# Altium footprint library qfn.PcbLib: 16 footprints
Each footprint in its own frame and in the unit in brackets; x right, y up, seen from the top. Pads: shape width x height; smd on the part's side, far side on the other; paste and mask are expansions set on the pad; w line width, h text height; cw(c..) or ccw(c..) is an arc to the next point about the centre after c.
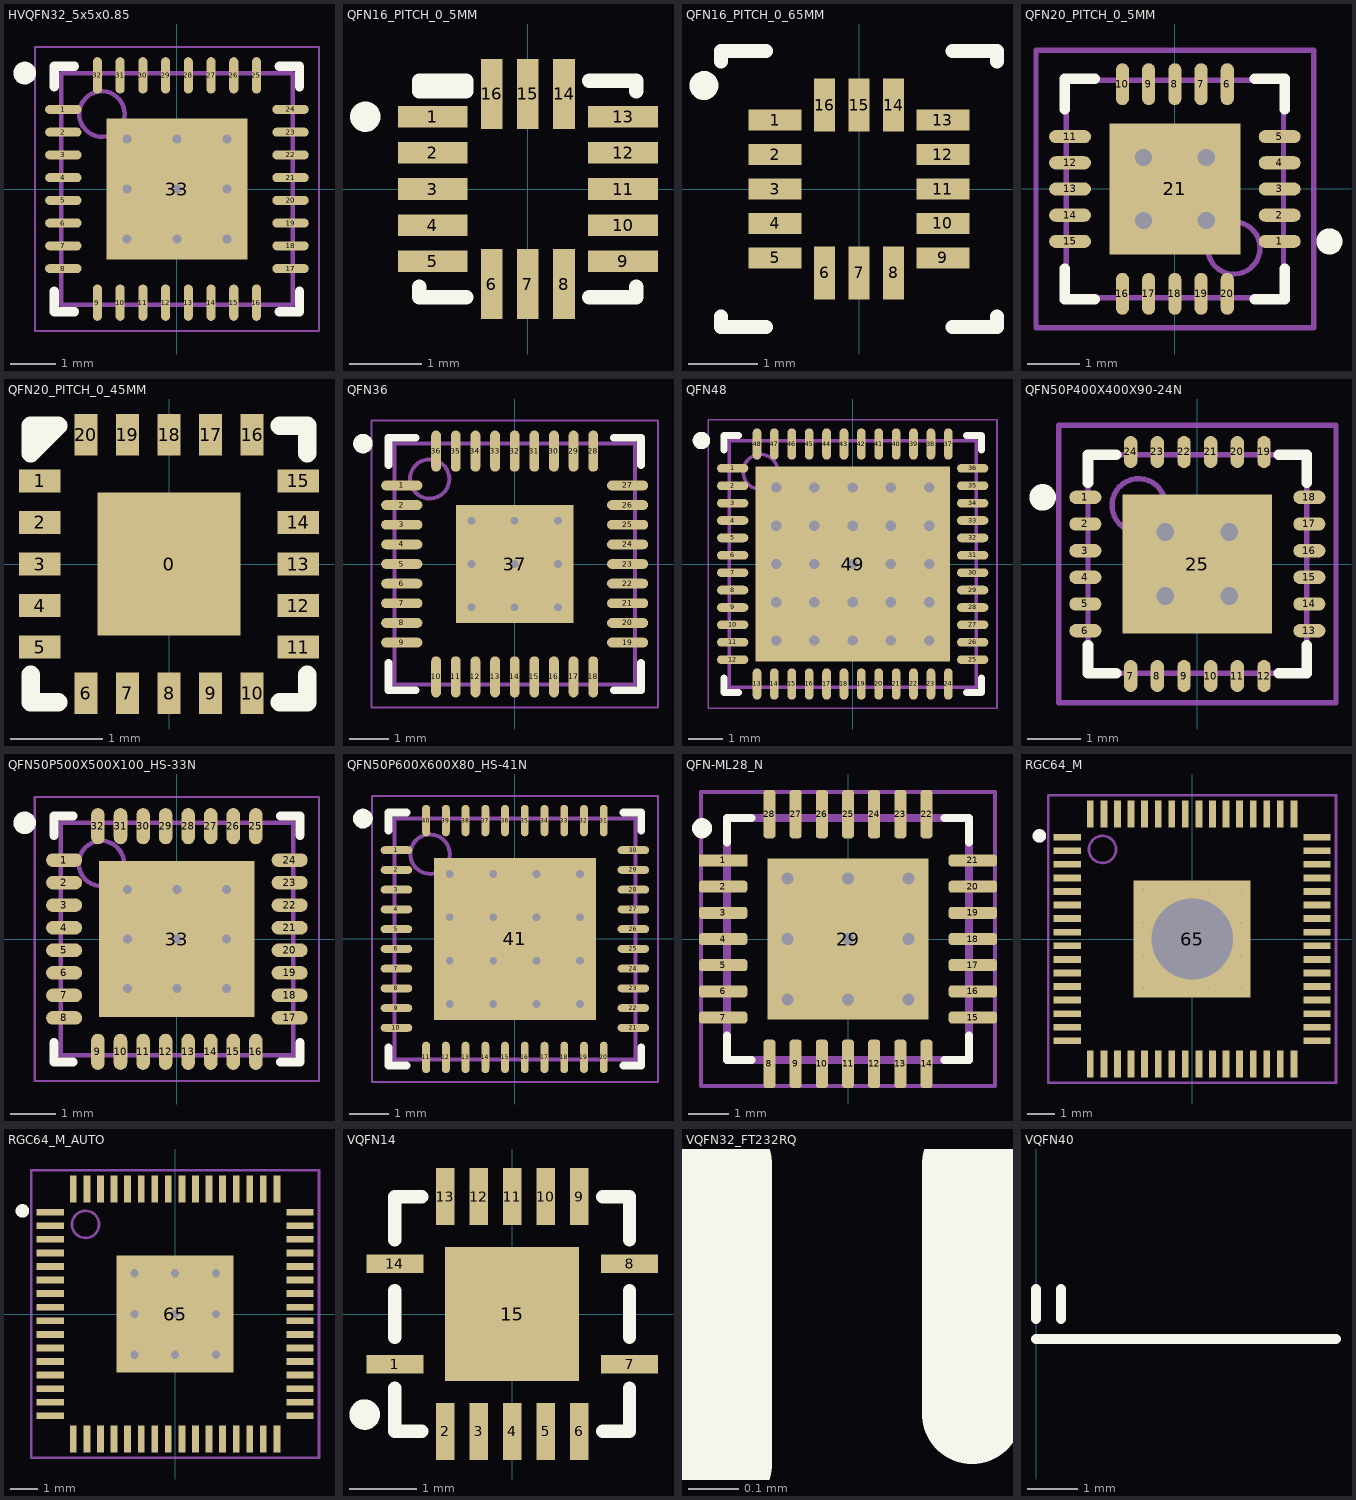
[diagram p0: the footprints below, top view; thin cyan lines are the x and y axes]

## HVQFN32_5x5x0.85 [mm] "QFN, 32-Leads, Body 5,00x5,00mm, Pitch 0,50mm, Thermal Pad 3,10x3,10mm, IPC Medium Density"
height 1
pads (33):
  oval 0.8x0.2 smd: 1(-2.5,1.75) 2(-2.5,1.25) 3(-2.5,0.75) 4(-2.5,0.25) 5(-2.5,-0.25) 6(-2.5,-0.75) 7(-2.5,-1.25) 8(-2.5,-1.75) 17(2.5,-1.75) 18(2.5,-1.25) 19(2.5,-0.75) 20(2.5,-0.25) 21(2.5,0.25) 22(2.5,0.75) 23(2.5,1.25) 24(2.5,1.75)
  oval 0.2x0.8 smd: 9(-1.75,-2.5) 10(-1.25,-2.5) 11(-0.75,-2.5) 12(-0.25,-2.5) 13(0.25,-2.5) 14(0.75,-2.5) 15(1.25,-2.5) 16(1.75,-2.5) 25(1.75,2.5) 26(1.25,2.5) 27(0.75,2.5) 28(0.25,2.5) 29(-0.25,2.5) 30(-0.75,2.5) 31(-1.25,2.5) 32(-1.75,2.5)
  rect 3.1x3.1 smd: 33(0,0)
via 1.1,-1.1 diameter 0.5 hole 0.2
via 0,-1.1 diameter 0.5 hole 0.2
via -1.1,-1.1 diameter 0.5 hole 0.2
via 1.1,0 diameter 0.5 hole 0.2
via 0,0 diameter 0.5 hole 0.2
via -1.1,0 diameter 0.5 hole 0.2
via 1.1,1.1 diameter 0.5 hole 0.2
via 0,1.1 diameter 0.5 hole 0.2
via -1.1,1.1 diameter 0.5 hole 0.2
Top Overlay:
  circle w0.25: c-3.35,2.55 r0.125
  lines w0.2: -2.7,-2.25 -2.7,-2.7 -2.25,-2.7 ; -2.7,2.25 -2.7,2.7 -2.25,2.7 ; 2.25,-2.7 2.7,-2.7 2.7,-2.25 ; 2.25,2.7 2.7,2.7 2.7,2.25
Mechanical 13:
  circle w0.1: c-1.65,1.65 r0.5
  lines w0.1: -2.55,-2.55 2.55,-2.55 2.55,2.55 -2.55,2.55 -2.55,-2.55
Mechanical 15:
  lines w0.05: -3.125,-3.125 3.125,-3.125 3.125,3.125 -3.125,3.125 -3.125,-3.125
  lines w0.1: -0.5,0 0.5,0 ; 0,-0.5 0,0.5
3D body: height 1, standoff 0, extent -2.55,-2.55 2.55,2.55

## QFN16_PITCH_0_5MM [mm] "QFN; 16 Leads; Body 3 x 3 x 1mm; Pitch 0.5 mm;"
height 0.9
pads (16):
  rect 0.967x0.3 smd: 1(-1.316,1) 2(-1.316,0.5) 3(-1.316,0) 4(-1.316,-0.5) 5(-1.316,-1) 9(1.316,-1) 10(1.316,-0.5) 11(1.316,0) 12(1.316,0.5) 13(1.316,1)
  rect 0.3x0.967 smd: 6(-0.5,-1.316) 7(0,-1.316) 8(0.5,-1.316) 14(0.5,1.316) 15(0,1.316) 16(-0.5,1.316)
Top Overlay:
  circle w0.22: c-2.25,1 r0.1
  lines w0.2: -1.5,-1.35 -1.5,-1.5 -0.85,-1.5 ; 0.85,-1.5 1.5,-1.5 1.5,-1.35 ; 0.85,1.5 1.5,1.5 1.5,1.35 ; -1.5,1.35 -1.5,1.5 -0.85,1.5 -0.85,1.35 -1.5,1.35
3D body: height 1, standoff 0, extent -1.5,-1.5 1.5,1.5

## QFN16_PITCH_0_65MM [mm] "QFN; 16 Leads; Body 4 x 4 x 1mm; Pitch 0.65 mm;"
height 0.9
pads (16):
  rect 0.767x0.3 smd: 1(-1.216,1) 2(-1.216,0.5) 3(-1.216,0) 4(-1.216,-0.5) 5(-1.216,-1) 9(1.216,-1) 10(1.216,-0.5) 11(1.216,0) 12(1.216,0.5) 13(1.216,1)
  rect 0.3x0.767 smd: 6(-0.5,-1.216) 7(0,-1.216) 8(0.5,-1.216) 14(0.5,1.216) 15(0,1.216) 16(-0.5,1.216)
Top Overlay:
  circle w0.22: c-2.25,1.5 r0.1
  lines w0.2: -2,-1.85 -2,-2 -1.35,-2 ; -2,1.85 -2,2 -1.35,2 ; 1.35,-2 2,-2 2,-1.85 ; 1.35,2 2,2 2,1.85
3D body "User Library-qfn16-4x4.step": height 0.92, standoff 0, extent -2,-2 2,2

## QFN20_PITCH_0_5MM [mm] "QFN, 20-Leads, Body 4,2x4,2mm (max), Pitch 0,50mm, IPC Medium Density"
height 1
pads (21):
  oval 0.8x0.25 smd: 1(2,-1) 2(2,-0.5) 3(2,0) 4(2,0.5) 5(2,1) 11(-2,1) 12(-2,0.5) 13(-2,0) 14(-2,-0.5) 15(-2,-1)
  oval 0.25x0.8 smd: 6(1,2) 7(0.5,2) 8(0,2) 9(-0.5,2) 10(-1,2) 16(-1,-2) 17(-0.5,-2) 18(0,-2) 19(0.5,-2) 20(1,-2)
  rect 2.5x2.5 smd: 21(0,0)
via -0.6,0.6 diameter 0.66 hole 0.33
via 0.6,0.6 diameter 0.66 hole 0.33
via -0.6,-0.6 diameter 0.66 hole 0.33
via 0.6,-0.6 diameter 0.66 hole 0.33
Top Overlay:
  circle w0.25: c2.95,-1 r0.125
  lines w0.2: -2.1,-1.525 -2.1,-2.1 -1.525,-2.1 ; -2.1,1.525 -2.1,2.1 -1.525,2.1 ; 1.525,-2.1 2.1,-2.1 2.1,-1.525 ; 1.525,2.1 2.1,2.1 2.1,1.525
Mechanical 13:
  circle w0.1: c1.125,-1.125 r0.5
  lines w0.1: -2.075,-2.075 2.075,-2.075 2.075,2.075 -2.075,2.075 -2.075,-2.075
Mechanical 15:
  lines w0.1: -0.5,0 0.5,0 ; 0,-0.5 0,0.5 ; -2.65,-2.65 2.65,-2.65 2.65,2.65 -2.65,2.65 -2.65,-2.65
3D body: height 1, standoff 0.05, extent -2.075,-2.075 2.075,2.075

## QFN20_PITCH_0_45MM [mm] "QFN; 20 Leads; Body 3 x 3 mm; Pitch 0.45 mm"
height 0.85
pads (21):
  rect 1.55x1.55 smd: 0(0,0)
  rect 0.45x0.25 smd mask+0.05: 1(-1.4,0.9) 2(-1.4,0.45) 3(-1.4,0) 4(-1.4,-0.45) 5(-1.4,-0.9) 11(1.4,-0.9) 12(1.4,-0.45) 13(1.4,0) 14(1.4,0.45) 15(1.4,0.9)
  rect 0.25x0.45 smd mask+0.05: 6(-0.9,-1.4) 7(-0.45,-1.4) 8(0,-1.4) 9(0.45,-1.4) 10(0.9,-1.4) 16(0.9,1.4) 17(0.45,1.4) 18(0,1.4) 19(-0.45,1.4) 20(-0.9,1.4)
Top Overlay:
  lines w0.2: -1.5,-1.2 -1.5,-1.5 -1.2,-1.5 ; 1.2,-1.5 1.5,-1.5 1.5,-1.2 ; 1.2,1.5 1.5,1.5 1.5,1.2 ; -1.5,1.2 -1.2,1.5 -1.5,1.5 -1.5,1.2
3D body "SW3dPS-QFN-20.STEP": height 0.62, standoff -0.08, extent -1.48,-1.52 1.52,1.48

## QFN36 [mm] "QFN, 36-Leads, Body 6.13x6.13mm, Pitch 0.5mm, Thermal Pad 3x3mm, IPC Medium Density"
height 1
pads (37):
  oval 1.05x0.25 smd: 1(-2.875,2) 2(-2.875,1.5) 3(-2.875,1) 4(-2.875,0.5) 5(-2.875,0) 6(-2.875,-0.5) 7(-2.875,-1) 8(-2.875,-1.5) 9(-2.875,-2) 19(2.875,-2) 20(2.875,-1.5) 21(2.875,-1) 22(2.875,-0.5) 23(2.875,0) 24(2.875,0.5) 25(2.875,1) 26(2.875,1.5) 27(2.875,2)
  oval 0.25x1.05 smd: 10(-2,-2.875) 11(-1.5,-2.875) 12(-1,-2.875) 13(-0.5,-2.875) 14(0,-2.875) 15(0.5,-2.875) 16(1,-2.875) 17(1.5,-2.875) 18(2,-2.875) 28(2,2.875) 29(1.5,2.875) 30(1,2.875) 31(0.5,2.875) 32(0,2.875) 33(-0.5,2.875) 34(-1,2.875) 35(-1.5,2.875) 36(-2,2.875)
  rect 3x3 smd: 37(0,0)
via 1.1,-1.1 diameter 0.5 hole 0.2
via 0,-1.1 diameter 0.5 hole 0.2
via -1.1,-1.1 diameter 0.5 hole 0.2
via 1.1,0 diameter 0.5 hole 0.2
via 0,0 diameter 0.5 hole 0.2
via -1.1,0 diameter 0.5 hole 0.2
via 1.1,1.1 diameter 0.5 hole 0.2
via 0,1.1 diameter 0.5 hole 0.2
via -1.1,1.1 diameter 0.5 hole 0.2
Top Overlay:
  circle w0.25: c-3.865,3.065 r0.125
  lines w0.2: -3.215,-2.525 -3.215,-3.215 -2.525,-3.215 ; -3.215,2.525 -3.215,3.215 -2.525,3.215 ; 2.525,-3.215 3.215,-3.215 3.215,-2.525 ; 2.525,3.215 3.215,3.215 3.215,2.525
Mechanical 13:
  circle w0.1: c-2.165,2.165 r0.5
  lines w0.1: -3.065,-3.065 3.065,-3.065 3.065,3.065 -3.065,3.065 -3.065,-3.065
Mechanical 15:
  lines w0.05: -3.65,-3.65 3.65,-3.65 3.65,3.65 -3.65,3.65 -3.65,-3.65
  lines w0.1: -0.5,0 0.5,0 ; 0,-0.5 0,0.5
3D body "User Library-QFN36 (6x6).step": height 0.9, standoff 0.01, extent -3.102,-3.103 3.103,3.102

## QFN48 [mm] "QFN, 48-Leads, Body 7.1x7.1mm, Pitch 0.5mm, Thermal Pad 5.6x5.6mm, IPC Medium Density"
height 0.6
pads (49):
  oval 0.9x0.25 smd: 1(-3.45,2.75) 2(-3.45,2.25) 3(-3.45,1.75) 4(-3.45,1.25) 5(-3.45,0.75) 6(-3.45,0.25) 7(-3.45,-0.25) 8(-3.45,-0.75) 9(-3.45,-1.25) 10(-3.45,-1.75) 11(-3.45,-2.25) 12(-3.45,-2.75) 25(3.45,-2.75) 26(3.45,-2.25) 27(3.45,-1.75) 28(3.45,-1.25) 29(3.45,-0.75) 30(3.45,-0.25) 31(3.45,0.25) 32(3.45,0.75) 33(3.45,1.25) 34(3.45,1.75) 35(3.45,2.25) 36(3.45,2.75)
  oval 0.25x0.9 smd: 13(-2.75,-3.45) 14(-2.25,-3.45) 15(-1.75,-3.45) 16(-1.25,-3.45) 17(-0.75,-3.45) 18(-0.25,-3.45) 19(0.25,-3.45) 20(0.75,-3.45) 21(1.25,-3.45) 22(1.75,-3.45) 23(2.25,-3.45) 24(2.75,-3.45) 37(2.75,3.45) 38(2.25,3.45) 39(1.75,3.45) 40(1.25,3.45) 41(0.75,3.45) 42(0.25,3.45) 43(-0.25,3.45) 44(-0.75,3.45) 45(-1.25,3.45) 46(-1.75,3.45) 47(-2.25,3.45) 48(-2.75,3.45)
  rect 5.6x5.6 smd: 49(0,0)
via -2.2,2.2 diameter 0.5 hole 0.3
via -1.1,2.2 diameter 0.5 hole 0.3
via 0,2.2 diameter 0.5 hole 0.3
via 1.1,2.2 diameter 0.5 hole 0.3
via 2.2,2.2 diameter 0.5 hole 0.3
via -2.2,1.1 diameter 0.5 hole 0.3
via -1.1,1.1 diameter 0.5 hole 0.3
via 0,1.1 diameter 0.5 hole 0.3
via 1.1,1.1 diameter 0.5 hole 0.3
via 2.2,1.1 diameter 0.5 hole 0.3
via -2.2,0 diameter 0.5 hole 0.3
via -1.1,0 diameter 0.5 hole 0.3
via 0,0 diameter 0.5 hole 0.3
via 1.1,0 diameter 0.5 hole 0.3
via 2.2,0 diameter 0.5 hole 0.3
via -2.2,-1.1 diameter 0.5 hole 0.3
via -1.1,-1.1 diameter 0.5 hole 0.3
via 0,-1.1 diameter 0.5 hole 0.3
via 1.1,-1.1 diameter 0.5 hole 0.3
via 2.2,-1.1 diameter 0.5 hole 0.3
via -2.2,-2.2 diameter 0.5 hole 0.3
via -1.1,-2.2 diameter 0.5 hole 0.3
via 0,-2.2 diameter 0.5 hole 0.3
via 1.1,-2.2 diameter 0.5 hole 0.3
via 2.2,-2.2 diameter 0.5 hole 0.3
Top Overlay:
  circle w0.25: c-4.35,3.55 r0.125
  lines w0.2: -3.7,-3.275 -3.7,-3.7 -3.275,-3.7 ; -3.7,3.275 -3.7,3.7 -3.275,3.7 ; 3.275,-3.7 3.7,-3.7 3.7,-3.275 ; 3.275,3.7 3.7,3.7 3.7,3.275
Mechanical 13:
  circle w0.1: c-2.65,2.65 r0.5
  lines w0.1: -3.55,-3.55 -3.55,3.55 3.55,3.55 3.55,-3.55 -3.55,-3.55
Mechanical 15:
  lines w0.05: -4.15,-4.15 -4.15,4.15 4.15,4.15 4.15,-4.15 -4.15,-4.15
  lines w0.1: -0.5,0 0.5,0 ; 0,-0.5 0,0.5
3D body "User Library-QFN48_7x7.step": height 0.78, standoff -0.02, extent -3.51,-3.51 3.51,3.51

## QFN50P400X400X90-24N [mm] "QFN, 24-Leads, Body 4,1x4,1mm (max), Pitch 0,50mm, IPC Medium Density"
height 0.9
pads (25):
  oval 0.6x0.25 smd: 1(-2.1,1.25) 2(-2.1,0.75) 3(-2.1,0.25) 4(-2.1,-0.25) 5(-2.1,-0.75) 6(-2.1,-1.25) 13(2.1,-1.25) 14(2.1,-0.75) 15(2.1,-0.25) 16(2.1,0.25) 17(2.1,0.75) 18(2.1,1.25)
  oval 0.25x0.6 smd: 7(-1.25,-2.1) 8(-0.75,-2.1) 9(-0.25,-2.1) 10(0.25,-2.1) 11(0.75,-2.1) 12(1.25,-2.1) 19(1.25,2.1) 20(0.75,2.1) 21(0.25,2.1) 22(-0.25,2.1) 23(-0.75,2.1) 24(-1.25,2.1)
  rect 2.8x2.6 smd: 25(0,0)
via -0.6,0.6 diameter 0.66 hole 0.33
via 0.6,0.6 diameter 0.66 hole 0.33
via -0.6,-0.6 diameter 0.66 hole 0.33
via 0.6,-0.6 diameter 0.66 hole 0.33
Top Overlay:
  circle w0.25: c-2.9,1.25 r0.125
  lines w0.2: -2.05,-1.525 -2.05,-2.05 -1.525,-2.05 ; -2.05,1.525 -2.05,2.05 -1.525,2.05 ; 1.525,-2.05 2.05,-2.05 2.05,-1.525 ; 1.525,2.05 2.05,2.05 2.05,1.525
Mechanical 13:
  circle w0.1: c-1.1,1.1 r0.5
  lines w0.1: -2.05,-2.05 -2.05,2.05 2.05,2.05 2.05,-2.05 -2.05,-2.05
Mechanical 15:
  lines w0.1: -0.5,0 0.5,0 ; 0,-0.5 0,0.5 ; -2.6,-2.6 -2.6,2.6 2.6,2.6 2.6,-2.6 -2.6,-2.6
3D body: height 0.9, standoff 0, extent -2.05,-2.05 2.05,2.05

## QFN50P500X500X100_HS-33N [mm] "QFN, 32-Leads, Body 5.00x5.00mm, Pitch 0.50mm, Thermal Pad 3.45x3.45mm, IPC Medium Density"
height 1
pads (33):
  oval 0.8x0.3 smd: 1(-2.5,1.75) 2(-2.5,1.25) 3(-2.5,0.75) 4(-2.5,0.25) 5(-2.5,-0.25) 6(-2.5,-0.75) 7(-2.5,-1.25) 8(-2.5,-1.75) 17(2.5,-1.75) 18(2.5,-1.25) 19(2.5,-0.75) 20(2.5,-0.25) 21(2.5,0.25) 22(2.5,0.75) 23(2.5,1.25) 24(2.5,1.75)
  oval 0.3x0.8 smd: 9(-1.75,-2.5) 10(-1.25,-2.5) 11(-0.75,-2.5) 12(-0.25,-2.5) 13(0.25,-2.5) 14(0.75,-2.5) 15(1.25,-2.5) 16(1.75,-2.5) 25(1.75,2.5) 26(1.25,2.5) 27(0.75,2.5) 28(0.25,2.5) 29(-0.25,2.5) 30(-0.75,2.5) 31(-1.25,2.5) 32(-1.75,2.5)
  rect 3.45x3.45 smd: 33(0,0)
via 1.1,-1.1 diameter 0.5 hole 0.2
via 0,-1.1 diameter 0.5 hole 0.2
via -1.1,-1.1 diameter 0.5 hole 0.2
via 1.1,0 diameter 0.5 hole 0.2
via 0,0 diameter 0.5 hole 0.2
via -1.1,0 diameter 0.5 hole 0.2
via 1.1,1.1 diameter 0.5 hole 0.2
via 0,1.1 diameter 0.5 hole 0.2
via -1.1,1.1 diameter 0.5 hole 0.2
Top Overlay:
  circle w0.25: c-3.375,2.575 r0.125
  lines w0.2: -2.725,-2.3 -2.725,-2.725 -2.3,-2.725 ; -2.725,2.3 -2.725,2.725 -2.3,2.725 ; 2.3,-2.725 2.725,-2.725 2.725,-2.3 ; 2.3,2.725 2.725,2.725 2.725,2.3
Mechanical 13:
  circle w0.1: c-1.675,1.675 r0.5
  lines w0.1: -2.575,-2.575 2.575,-2.575 2.575,2.575 -2.575,2.575 -2.575,-2.575
Mechanical 15:
  lines w0.05: -3.15,-3.15 3.15,-3.15 3.15,3.15 -3.15,3.15 -3.15,-3.15
  lines w0.1: -0.5,0 0.5,0 ; 0,-0.5 0,0.5
3D body: height 1, standoff 0.05, extent -2.575,-2.575 2.575,2.575

## QFN50P600X600X80_HS-41N [mm] "QFN, 40-Leads, Body 6,00x6,00mm, Pitch 0,50mm, Thermal Pad 4,10x4,10mm, IPC Medium Density"
height 0.8
pads (41):
  oval 0.8x0.2 smd: 1(-3,2.25) 2(-3,1.75) 3(-3,1.25) 4(-3,0.75) 5(-3,0.25) 6(-3,-0.25) 7(-3,-0.75) 8(-3,-1.25) 9(-3,-1.75) 10(-3,-2.25) 21(3,-2.25) 22(3,-1.75) 23(3,-1.25) 24(3,-0.75) 25(3,-0.25) 26(3,0.25) 27(3,0.75) 28(3,1.25) 29(3,1.75) 30(3,2.25)
  oval 0.2x0.8 smd: 11(-2.25,-3) 12(-1.75,-3) 13(-1.25,-3) 14(-0.75,-3) 15(-0.25,-3) 16(0.25,-3) 17(0.75,-3) 18(1.25,-3) 19(1.75,-3) 20(2.25,-3) 31(2.25,3) 32(1.75,3) 33(1.25,3) 34(0.75,3) 35(0.25,3) 36(-0.25,3) 37(-0.75,3) 38(-1.25,3) 39(-1.75,3) 40(-2.25,3)
  rect 4.1x4.1 smd: 41(0,0)
via -1.65,1.65 diameter 0.5 hole 0.2
via -0.55,1.65 diameter 0.5 hole 0.2
via 0.55,1.65 diameter 0.5 hole 0.2
via 1.65,1.65 diameter 0.5 hole 0.2
via -1.65,0.55 diameter 0.5 hole 0.2
via -0.55,0.55 diameter 0.5 hole 0.2
via 0.55,0.55 diameter 0.5 hole 0.2
via 1.65,0.55 diameter 0.5 hole 0.2
via -1.65,-0.55 diameter 0.5 hole 0.2
via -0.55,-0.55 diameter 0.5 hole 0.2
via 0.55,-0.55 diameter 0.5 hole 0.2
via 1.65,-0.55 diameter 0.5 hole 0.2
via -1.65,-1.65 diameter 0.5 hole 0.2
via -0.55,-1.65 diameter 0.5 hole 0.2
via 0.55,-1.65 diameter 0.5 hole 0.2
via 1.65,-1.65 diameter 0.5 hole 0.2
Top Overlay:
  circle w0.25: c-3.85,3.05 r0.125
  lines w0.2: -3.2,-2.75 -3.2,-3.2 -2.75,-3.2 ; -3.2,2.75 -3.2,3.2 -2.75,3.2 ; 2.75,-3.2 3.2,-3.2 3.2,-2.75 ; 2.75,3.2 3.2,3.2 3.2,2.75
Mechanical 13:
  circle w0.1: c-2.15,2.15 r0.5
  lines w0.1: -3.05,-3.05 -3.05,3.05 3.05,3.05 3.05,-3.05 -3.05,-3.05
Mechanical 15:
  lines w0.05: -3.625,-3.625 -3.625,3.625 3.625,3.625 3.625,-3.625 -3.625,-3.625
  lines w0.1: -0.5,0 0.5,0 ; 0,-0.5 0,0.5
3D body: height 0.8, standoff 0, extent -3.05,-3.05 3.05,3.05

## QFN-ML28_N [mm] "QFN, 28-Leads, Body 6x6 mm, Pitch 0.65mm, IPC Medium Density"
height 1
pads (29):
  rect 1.2x0.3 smd: 1(-3.1,1.95)
  rrect50% 1.2x0.3 smd: 2(-3.1,1.3) 3(-3.1,0.65) 4(-3.1,0) 5(-3.1,-0.65) 6(-3.1,-1.3) 7(-3.1,-1.95) 15(3.1,-1.95) 16(3.1,-1.3) 17(3.1,-0.65) 18(3.1,0) 19(3.1,0.65) 20(3.1,1.3) 21(3.1,1.95)
  rrect50% 0.3x1.2 smd: 8(-1.95,-3.1) 9(-1.3,-3.1) 10(-0.65,-3.1) 11(0,-3.1) 12(0.65,-3.1) 13(1.3,-3.1) 14(1.95,-3.1) 22(1.95,3.1) 23(1.3,3.1) 24(0.65,3.1) 25(0,3.1) 26(-0.65,3.1) 27(-1.3,3.1) 28(-1.95,3.1)
  rect 4x4 smd: 29(0,0)
via -1.5,-1.5 diameter 0.8 hole 0.3
via 0,-1.5 diameter 0.8 hole 0.3
via 1.5,-1.5 diameter 0.8 hole 0.3
via 1.5,0 diameter 0.8 hole 0.3
via 1.5,1.5 diameter 0.8 hole 0.3
via -1.5,1.5 diameter 0.8 hole 0.3
via 0,1.5 diameter 0.8 hole 0.3
via -1.5,0 diameter 0.8 hole 0.3
via 0,0 diameter 0.8 hole 0.3
Top Overlay:
  circle w0.25: c-3.625,2.75 r0.125
  lines w0.2: -3,-2.4 -3,-3 -2.4,-3 ; -3,2.4 -3,3 -2.4,3 ; 2.4,-3 3,-3 3,-2.4 ; 2.4,3 3,3 3,2.4
Mechanical 13:
  lines w0.2: -3,-3 3,-3 3,3 -3,3 -3,-3
Mechanical 15:
  lines w0.1: -0.5,0 0.5,0 ; 0,-0.5 0,0.5 ; -3.65,-3.65 3.65,-3.65 3.65,3.65 -3.65,3.65 -3.65,-3.65
3D body: height 1, standoff 0, extent -3.075,-3.075 3.075,3.075

## RGC64_M [mm] "QFN, 64-Leads, Body 9.1x9.1mm (max), Pitch 0.50mm, IPC Medium Density"
height 1
pads (65):
  rect 1x0.25 smd: 1(-4.6,3.75) 2(-4.6,3.25) 3(-4.6,2.75) 4(-4.6,2.25) 5(-4.6,1.75) 6(-4.6,1.25) 7(-4.6,0.75) 8(-4.6,0.25) 9(-4.6,-0.25) 10(-4.6,-0.75) 11(-4.6,-1.25) 12(-4.6,-1.75) 13(-4.6,-2.25) 14(-4.6,-2.75) 15(-4.6,-3.25) 16(-4.6,-3.75) 33(4.6,-3.75) 34(4.6,-3.25) 35(4.6,-2.75) 36(4.6,-2.25) 37(4.6,-1.75) 38(4.6,-1.25) 39(4.6,-0.75) 40(4.6,-0.25) 41(4.6,0.25) 42(4.6,0.75) 43(4.6,1.25) 44(4.6,1.75) 45(4.6,2.25) 46(4.6,2.75) 47(4.6,3.25) 48(4.6,3.75)
  rect 0.25x1 smd: 17(-3.75,-4.6) 18(-3.25,-4.6) 19(-2.75,-4.6) 20(-2.25,-4.6) 21(-1.75,-4.6) 22(-1.25,-4.6) 23(-0.75,-4.6) 24(-0.25,-4.6) 25(0.25,-4.6) 26(0.75,-4.6) 27(1.25,-4.6) 28(1.75,-4.6) 29(2.25,-4.6) 30(2.75,-4.6) 31(3.25,-4.6) 32(3.75,-4.6) 49(3.75,4.6) 50(3.25,4.6) 51(2.75,4.6) 52(2.25,4.6) 53(1.75,4.6) 54(1.25,4.6) 55(0.75,4.6) 56(0.25,4.6) 57(-0.25,4.6) 58(-0.75,4.6) 59(-1.25,4.6) 60(-1.75,4.6) 61(-2.25,4.6) 62(-2.75,4.6) 63(-3.25,4.6) 64(-3.75,4.6)
  rect 4.3x4.3 smd: 65(0,0)
via -1.8,1.8 diameter 0 hole 0
via 1.8,1.8 diameter 0 hole 0
via 0,0 diameter 3.8 hole 3
via 0.6,1.8 diameter 0 hole 0
via 0.6,0.6 diameter 0 hole 0
via 1.8,0.6 diameter 0 hole 0
via -1.8,-0.6 diameter 0 hole 0
via -0.6,-0.6 diameter 0 hole 0
via 0.6,-0.6 diameter 0 hole 0
via 1.8,-0.6 diameter 0 hole 0
via -1.8,-1.8 diameter 0 hole 0
via -0.6,-1.8 diameter 0 hole 0
via 0.6,-1.8 diameter 0 hole 0
via 1.8,-1.8 diameter 0 hole 0
via -1.8,0.6 diameter 0 hole 0
via -0.6,1.8 diameter 0 hole 0
Top Overlay:
  circle w0.25: c-5.625,3.8 r0.125
Mechanical 13:
  circle w0.1: c-3.3,3.3 r0.5
Mechanical 15:
  lines w0.1: -0.5,0 0.5,0 ; 0,-0.5 0,0.5 ; -5.3,-5.3 -5.3,5.3 5.3,5.3 5.3,-5.3 -5.3,-5.3
3D body: height 1, standoff 0, extent -4.575,-4.575 4.575,4.575

## RGC64_M_AUTO [mm] "QFN, 64-Leads, Body 9.1x9.1mm (max), Pitch 0.50mm, IPC Medium Density"
height 1
pads (65):
  rect 1x0.25 smd: 1(-4.6,3.75) 2(-4.6,3.25) 3(-4.6,2.75) 4(-4.6,2.25) 5(-4.6,1.75) 6(-4.6,1.25) 7(-4.6,0.75) 8(-4.6,0.25) 9(-4.6,-0.25) 10(-4.6,-0.75) 11(-4.6,-1.25) 12(-4.6,-1.75) 13(-4.6,-2.25) 14(-4.6,-2.75) 15(-4.6,-3.25) 16(-4.6,-3.75) 33(4.6,-3.75) 34(4.6,-3.25) 35(4.6,-2.75) 36(4.6,-2.25) 37(4.6,-1.75) 38(4.6,-1.25) 39(4.6,-0.75) 40(4.6,-0.25) 41(4.6,0.25) 42(4.6,0.75) 43(4.6,1.25) 44(4.6,1.75) 45(4.6,2.25) 46(4.6,2.75) 47(4.6,3.25) 48(4.6,3.75)
  rect 0.25x1 smd: 17(-3.75,-4.6) 18(-3.25,-4.6) 19(-2.75,-4.6) 20(-2.25,-4.6) 21(-1.75,-4.6) 22(-1.25,-4.6) 23(-0.75,-4.6) 24(-0.25,-4.6) 25(0.25,-4.6) 26(0.75,-4.6) 27(1.25,-4.6) 28(1.75,-4.6) 29(2.25,-4.6) 30(2.75,-4.6) 31(3.25,-4.6) 32(3.75,-4.6) 49(3.75,4.6) 50(3.25,4.6) 51(2.75,4.6) 52(2.25,4.6) 53(1.75,4.6) 54(1.25,4.6) 55(0.75,4.6) 56(0.25,4.6) 57(-0.25,4.6) 58(-0.75,4.6) 59(-1.25,4.6) 60(-1.75,4.6) 61(-2.25,4.6) 62(-2.75,4.6) 63(-3.25,4.6) 64(-3.75,4.6)
  rect 4.3x4.3 smd: 65(0,0)
via 1.5,-1.5 diameter 0.8 hole 0.3
via 0,-1.5 diameter 0.8 hole 0.3
via -1.5,-1.5 diameter 0.8 hole 0.3
via 1.5,0 diameter 0.8 hole 0.3
via 0,0 diameter 0.8 hole 0.3
via -1.5,0 diameter 0.8 hole 0.3
via 1.5,1.5 diameter 0.8 hole 0.3
via 0,1.5 diameter 0.8 hole 0.3
via -1.5,1.5 diameter 0.8 hole 0.3
Top Overlay:
  circle w0.25: c-5.625,3.8 r0.125
Mechanical 13:
  circle w0.1: c-3.3,3.3 r0.5
Mechanical 15:
  lines w0.1: -0.5,0 0.5,0 ; 0,-0.5 0,0.5 ; -5.3,-5.3 -5.3,5.3 5.3,5.3 5.3,-5.3 -5.3,-5.3
3D body: height 1, standoff 0, extent -4.575,-4.575 4.575,4.575

## VQFN14 [mm]
pads (15):
  rect 0.85x0.28 smd: 1(-1.75,-0.75) 7(1.75,-0.75) 8(1.75,0.75) 14(-1.75,0.75)
  rect 0.28x0.85 smd: 2(-1,-1.75) 3(-0.5,-1.75) 4(0,-1.75) 5(0.5,-1.75) 6(1,-1.75) 9(1,1.75) 10(0.5,1.75) 11(0,1.75) 12(-0.5,1.75) 13(-1,1.75)
  rect 2x2 smd: 15(0,0)
Top Overlay:
  circle w0.254: c-2.2,-1.5 r0.1
  lines w0.2: -1.75,-1.108 -1.75,-1.25 -1.75,-1.75 -1.35,-1.75 ; -1.75,-0.35 -1.75,0 -1.75,0.35 ; -1.75,1.108 -1.75,1.25 -1.75,1.75 -1.35,1.75 ; 1.35,-1.75 1.75,-1.75 1.75,-1.25 1.75,-1.108 ; 1.35,1.75 1.75,1.75 1.75,1.25 1.75,1.108 ; 1.75,-0.35 1.75,0 1.75,0.35
3D body "User Library-VQFN-14_TH.step": height 1.05, standoff 0, extent -1.75,-1.75 1.75,1.75

## VQFN32_FT232RQ [mm]
Top Overlay:
  lines w0.2: 0,-5.6 0,-5 ; 0.5,-5.5 0.5,-5
3D body "User Library-FT232RQ(AP214)-1.STEP": height 0.8, standoff -0.05, extent -0.6,-5.3 4.4,-0.3

## VQFN40 [mm] "VQFN; 40 leads; 6x6mm; 0.5mm Pitch"
Top Overlay:
  lines w0.2: 0,-5 6,-5 ; 0,-4.6 0,-4 ; 0.5,-4.6 0.5,-4
3D body "User Library-QFN-40.STEP": height 1.08, standoff 0.03, extent -0.075,-5 6.075,1.15